# Altium schematic symbol library SCH - OPAMP - TI LM321MFX-NOPB.SCHLIB: 1 symbol
Pins are listed as number, name and electrical type; pins without a type are passive.

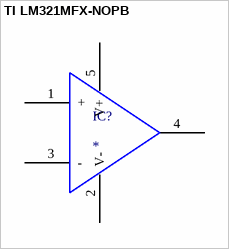
[diagram p0: symbol TI LM321MFX-NOPB]

## TI LM321MFX-NOPB
designator IC?
pins: 1 +, 2 V-, 3 -, 4 OUT, 5 V+